# EAGLE library part HCF40106BEY (library ST_Microelctronics_By_element14_Batch_1)
HEX SCHMITT TRIGGER
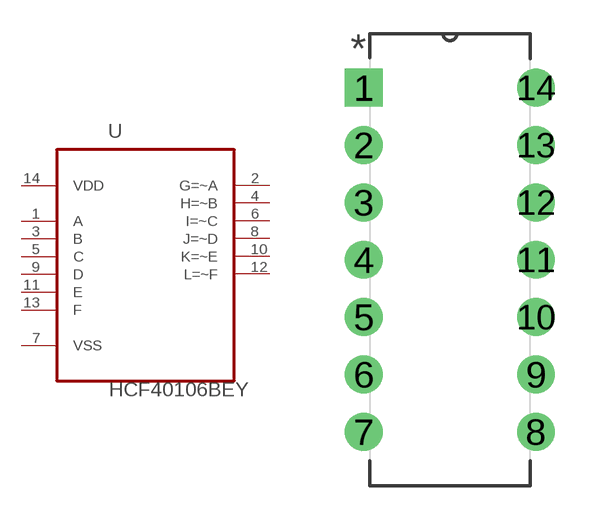
[diagram p6: symbol with the pads of DIP254P762X510-14; footprint DIP254P762X510-14]

Designator prefix U

## HCF40106BEY (MPN: HCF40106BEY; OC_FARNELL: 9755608; OC_NEWARK: 89K0548; PACKAGE: PDIP-14; SUPPLIER: STMICROELECTRONICS)  [DIP254P762X510-14]
1  A  in
2  G=~A  out
3  B  in
4  H=~B  out
5  C  in
6  I=~C  out
7  VSS  pwr
8  J=~D  out
9  D  in
10  K=~E  out
11  E  in
12  L=~F  out
13  F  in
14  VDD  pwr

## Footprint DIP254P762X510-14 (pad centres in mm)
drill 1.118 square: 1 -7.62,15.24
drill 1.118: 2 -7.62,12.7; 3 -7.62,10.16; 4 -7.62,7.62; 5 -7.62,5.08; 6 -7.62,2.54; 7 -7.62,0; 8 0,0; 9 0,2.54; 10 0,5.08; 11 0,7.62; 12 0,10.16; 13 0,12.7; 14 0,15.24